# Altium schematic symbol library Servo_Control_Lib.SchLib: 40 symbols
Pins are listed as number, name and electrical type; pins without a type are passive.

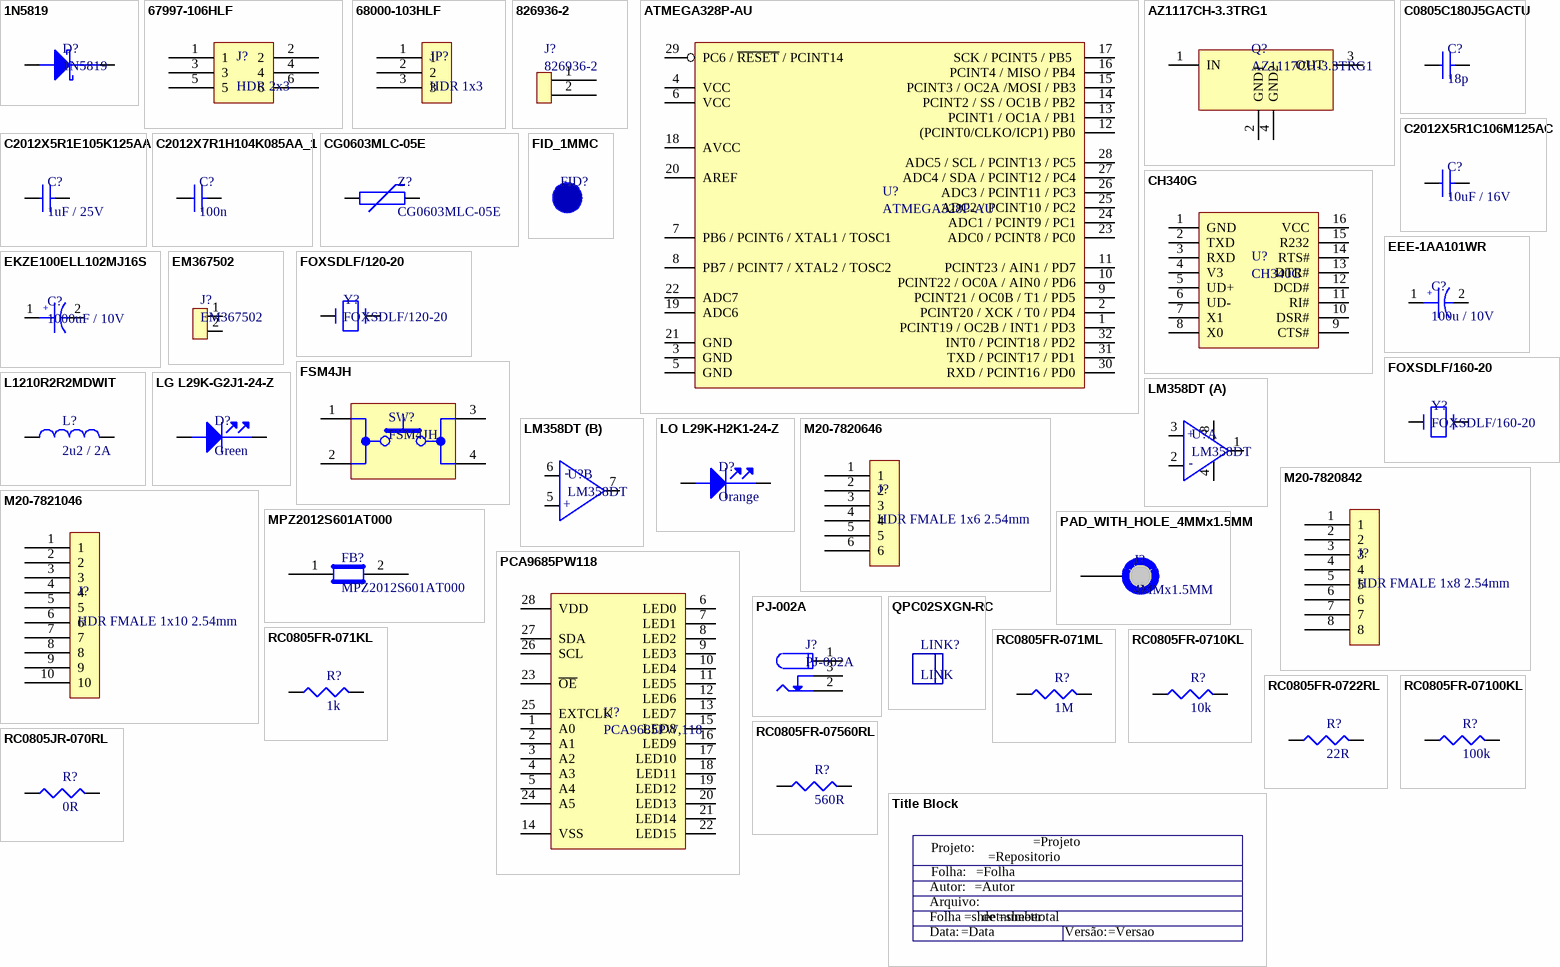
[diagram p0: symbols 1N5819 to Title Block]

## 1N5819
designator D?
Schottky Diodes & Rectifiers Schottky Barrier; Manufacturer: ON Semiconductor / Fairchild; Configuration: Single; If - Forward Current: 1 A; Ifsm - Forward Surge Current: 25 A; Ir - Reverse Current: 500 uA; Vf - Forward Voltage: 0.6 V; Vrrm - Repetitive Reverse Voltage: 40 V; Supplier 1: Mouser; Manufacturer Part Number: 1N5819; RoHS: RoHS Compliant; Category: Schottky Diodes & Rectifiers; Stock 1: 19180; Pricing 1: 1=0.380, 10=0.266, 100=0.122, 1000=0.094, 5000=0.080, 10000=0.073, 25000=0.068, 50000=0.061, 100000=0.059 (USD); Height: 2.72 mm (Max); Length: 5.21 mm (Max); Operating Temperature Range: - 65 C to + 125 C; Package / Case: DO-41; Packaging: Cut Tape; Product: Schottky Rectifiers; Series: 1N5819; Technology: Si; Type: Schottky Diode; Width: 2.72 mm (Max); Brand: ON Semiconductor / Fairchild; Mounting Style: Through Hole; Maximum Operating Temperature: + 125 C; Minimum Operating Temperature: - 65 C; Standard Pack Qty: 5000; RoHS - Mouser: Y; Minimum Order Quantity: 1; Reeling: True; ComponentLink1URL: http://www.mouser.com/ds/2/308/1N5819-1118406.pdf; ComponentLink1Description: http://www.mouser.com/ds/2/308/1N5819-1118406.pdf; Supplier Part Number 1: 512-1N5819
footprint 1N5819
pins: 1 Cathode, 2 Anode

## 67997-106HLF
designator J?, comment HDR 2x3
CONN HEADER 6POS .100 STR 30AU; Manufacturer: FCI; Manufacturer Part Number: 67997-106HLF; Connector Type: Header, Unshrouded; Number of Positions: 6; Number of Positions Loaded: All; Pitch: 0.100" (2.54mm); Supplier 1: Digi-Key; RoHS: RoHS Compliant; Category: Connectors, Interconnects; Stock 1: 1415; Pricing 1: 1=1.64, 10=1.489, 25=1.3976, 50=1.3368, 100=1.276, 250=1.15444, 500=1.0633, 1000=0.9114, 2500=0.85064 (USD); Packaging: Bulk; Contact Type: Male Pin; Number of Rows: 2; Row Spacing: 0.100" (2.54mm); Contact Mating Length: 0.230" (5.84mm); Mounting Type: Through Hole; Termination: Solder; Fastening Type: -; Features: -; Contact Finish: Gold or Gold, GXT™; Contact Finish Thickness: 30µin (0.76µm); Color: Black; ComponentLink1URL: http://portal.fciconnect.com/Comergent//fci/drawing/67996.pdf; ComponentLink1Description: http://portal.fciconnect.com/Comergent//fci/drawing/67996.pdf; Supplier Part Number 1: 609-3393-ND
footprint HDR_2x3_2.54MM
pins: 1, 2, 3, 4, 5, 6

## 68000-103HLF
designator JP?, comment HDR 1x3
BERGSTIK II .100" SR STRAIGHT; Manufacturer: FCI; Manufacturer Part Number: 68000-103HLF; Connector Type: Header, Unshrouded; Number of Positions: 3; Number of Positions Loaded: All; Pitch: 0.100" (2.54mm); Supplier 1: Digi-Key; RoHS: RoHS Compliant; Category: Connectors, Interconnects; Stock 1: 54154; Pricing 1: 1=0.26, 10=0.249, 25=0.2136, 50=0.1816, 100=0.1744, 250=0.15664, 500=0.14952, 1000=0.1246, 2500=0.11392 (USD); Packaging: Bulk; Contact Type: Male Pin; Number of Rows: 1; Row Spacing: -; Contact Mating Length: 0.230" (5.84mm); Mounting Type: Through Hole; Termination: Solder; Fastening Type: -; Features: -; Contact Finish: Gold or Gold, GXT™; Contact Finish Thickness: 30µin (0.76µm); Color: Black; ComponentLink1URL: http://portal.fciconnect.com/Comergent//fci/drawing/68000.pdf; ComponentLink1Description: http://portal.fciconnect.com/Comergent//fci/drawing/68000.pdf; Supplier Part Number 1: 609-3461-ND
footprint Hdr_1x3_2.54mm
pins: 1, 2, 3

## 826936-2
designator J?
Headers & Wire Housings 2P SINGLE ROW; Manufacturer: TE Connectivity; Mounting Angle: Vertical; Number of Positions: 2 Position; Pitch: 2.54 mm; Mating Post Length: 5.8 mm; Supplier 1: Mouser; Manufacturer Part Number: 826936-2; RoHS: RoHS Compliant; Category: Headers & Wire Housings; Stock 1: 5764; Pricing 1: 1=0.100, 25=0.090, 50=0.086, 100=0.082, 500=0.075, 1000=0.072 (USD); Contact Plating: Tin; Housing Material: Thermoplastic; Number of Rows: 1 Row; Packaging: Bulk; Product: Headers; Series: AMPMODU MOD II; Termination Style: Through Hole; Type: Breakaway; Brand: TE Connectivity; Contact Material: Brass; Flammability Rating: UL 94 V-0; Mounting Style: -; Row Spacing: 2.54 mm; Contact Gender: Pin (Male); Standard Pack Qty: 3000; Termination Post Length: 3.2 mm; Tradename: AMPMODU; RoHS - Mouser: Y; Minimum Order Quantity: 1; Reeling: False; ComponentLink1URL: http://www.mouser.com/ds/2/418/NG_CD_826629_AC-673032.pdf; ComponentLink1Description: http://www.mouser.com/ds/2/418/NG_CD_826629_AC-673032.pdf; Supplier Part Number 1: 571-826936-2
footprint HDR_1X2_2.54MM
pins: 1, 2

## ATMEGA328P-AU
designator U?
8-bit Microcontrollers - MCU 32KB In-system Flash 20MHz 1.8V-5.5V; Manufacturer: Microchip Technology / Atmel; Data RAM Size: 2 kB; Data RAM Type: SRAM; Data ROM Size: 1 kB; Data ROM Type: EEPROM; Interface Type: I2C, SPI, USART; Number of I/Os: 23 I/O; ADC Resolution: 10 bit; Core: AVR; Data Bus Width: 8 bit; Number of ADC Channels: 8; Number of Timers/Counters: 3 Timer; Operating Supply Voltage: 1.8 V to 5.5 V; Processor Series: megaAVR; Supply Voltage - Max: 5.5 V; Supply Voltage - Min: 1.8 V; Supplier 1: Mouser; Manufacturer Part Number: ATMEGA328P-AU; RoHS: RoHS Compliant; Category: 8-bit Microcontrollers - MCU; Stock 1: 28109; Pricing 1: 1=2.07, 25=1.89, 100=1.72, 1000=1.64 (USD); Height: 1 mm; Length: 7 mm; Package / Case: TQFP-32; Packaging: Tray; Product: MCU; Program Memory Type: Flash; Series: ATMEGA328; Width: 7 mm; Brand: Microchip Technology / Atmel; Mounting Style: SMD/SMT; Program Memory Size: 32 kB; Maximum Clock Frequency: 20 MHz; Maximum Operating Temperature: + 85 C; Minimum Operating Temperature: - 40 C; Moisture Sensitive: Yes; Standard Pack Qty: 250; Tradename: ATMEGA; RoHS - Mouser: Y; Minimum Order Quantity: 1; Reeling: False; ComponentLink1URL: http://www.mouser.com/ds/2/268/atmel-8271-8-bit-avr-microcontroller-atmega48a-48p-1065900.pdf; ComponentLink1Description: http://www.mouser.com/ds/2/268/atmel-8271-8-bit-avr-microcontroller-atmega48a-48p-1065900.pdf; Supplier Part Number 1: 556-ATMEGA328P-AU
footprint TQFP32
pins: 1 PCINT19 / OC2B / INT1 / PD3, 2 PCINT20 / XCK / T0 / PD4, 3 GND, 4 VCC, 5 GND, 6 VCC, 7 PB6 / PCINT6 / XTAL1 / TOSC1, 8 PB7 / PCINT7 / XTAL2 / TOSC2, 9 PCINT21 / OC0B / T1 / PD5, 10 PCINT22 / OC0A / AIN0 / PD6, 11 PCINT23 / AIN1 / PD7, 12 (PCINT0/CLKO/ICP1) PB0, 13 PCINT1 / OC1A / PB1, 14 PCINT2 / SS / OC1B / PB2, 15 PCINT3 / OC2A /MOSI / PB3, 16 PCINT4 / MISO / PB4, 17 SCK / PCINT5 / PB5 , 18 AVCC, 19 ADC6, 20 AREF, 21 GND, 22 ADC7, 23 ADC0 / PCINT8 / PC0, 24  ADC1 / PCINT9 / PC1, 25  ADC2 / PCINT10 / PC2, 26  ADC3 / PCINT11 / PC3, 27 ADC4 / SDA / PCINT12 / PC4, 28 ADC5 / SCL / PCINT13 / PC5, 29 PC6 / ~{RESET} / PCINT14, 30  RXD / PCINT16 / PD0, 31 TXD / PCINT17 / PD1, 32 INT0 / PCINT18 / PD2

## AZ1117CH-3.3TRG1
designator Q?
LDO Voltage Regulators LDO BJT HiCurr 1.15V at 1A; Manufacturer: Diodes Incorporated; Input Voltage MAX: 15 V; Number of Outputs: 1 Output; Output Current: 800 mA; Output Type: Fixed; Output Voltage: 3.3 V; Quiescent Current: 4 mA; Type: Linear Regulator; Dropout Voltage - Max: 1.3 V; PSRR / Ripple Rejection - Typ: 70 dB; Dropout Voltage: 1.2 V; Line Regulation: 500 uV; Load Regulation: 2 mV; Supplier 1: Mouser; Manufacturer Part Number: AZ1117CH-3.3TRG1; RoHS: RoHS Compliant; Category: LDO Voltage Regulators; Stock 1: 11685; Pricing 1: 1=0.380, 10=0.262, 100=0.120, 1000=0.093, 4000=0.079, 8000=0.072, 24000=0.067, 48000=0.060, 100000=0.058 (USD); Package / Case: SOT-223-3; Packaging: Cut Tape; Product: LDO Voltage Regulators; Series: AZ1117; Brand: Diodes Incorporated; Mounting Style: SMD/SMT; Output Voltage Range: -; Maximum Operating Temperature: + 125 C; Minimum Operating Temperature: - 20 C; Moisture Sensitive: Yes; Standard Pack Qty: 4000; RoHS - Mouser: Y; Minimum Order Quantity: 1; Reeling: True; ComponentLink1URL: http://www.mouser.com/ds/2/115/AZ1117C-271627.pdf; ComponentLink1Description: http://www.mouser.com/ds/2/115/AZ1117C-271627.pdf; Supplier Part Number 1: 621-AZ1117CH-3.3TRG1
footprint SOT223
pins: 1 IN, 2 GND1, 3 OUT, 4 GND2

## C0805C180J5GACTU
designator C?, comment 18p
CAP CER 18PF 50V NP0 0805; Manufacturer: Kemet; Manufacturer Part Number: C0805C180J5GACTU; Tolerance: ±5%; Temperature Coefficient: C0G, NP0; Supplier 1: Digi-Key; RoHS: RoHS Compliant; Category: Capacitors; Stock 1: 159749; Pricing 1: 1=0.11, 10=0.082, 50=0.0442, 100=0.0374, 250=0.0306, 500=0.02618, 1000=0.0204 (USD); Packaging: Cut Tape (CT); Capacitance: 18pF; Voltage - Rated: 50V; Mounting Type: Surface Mount, MLCC; Operating Temperature: -55°C ~ 125°C; Applications: General Purpose; Ratings: -; Package / Case: 0805 (2012 Metric); Size / Dimension: 0.079" L x 0.049" W (2.00mm x 1.25mm); Height - Seated (Max): -; Thickness (Max): 0.035" (0.88mm); Lead Spacing: -; Features: -; Lead Style: -; ComponentLink1URL: http://www.kemet.com/docfinder?Partnumber=C0805C180J5GACTU; ComponentLink1Description: http://www.kemet.com/docfinder?Partnumber=C0805C180J5GACTU; Supplier Part Number 1: 399-1112-1-ND
footprint C0805
pins: 1, 2

## C2012X5R1C106M125AC
designator C?, comment 10uF / 16V
CAP CER 10UF 16V X5R 0805; Manufacturer: TDK Corporation; Manufacturer Part Number: C2012X5R1C106M125AC; Capacitance: 10µF; Tolerance: ±20%; Supplier 1: Digi-Key; RoHS: RoHS Compliant; Category: Capacitors; Stock 1: 72024; Pricing 1: 1=0.33, 10=0.272, 100=0.136, 250=0.102, 500=0.0901, 1000=0.0799 (USD); Packaging: Cut Tape (CT); Voltage - Rated: 16V; Temperature Coefficient: X5R; Mounting Type: Surface Mount, MLCC; Operating Temperature: -55°C ~ 85°C; Applications: General Purpose; Ratings: -; Package / Case: 0805 (2012 Metric); Size / Dimension: 0.079" L x 0.049" W (2.00mm x 1.25mm); Height - Seated (Max): -; Thickness (Max): 0.057" (1.45mm); Lead Spacing: -; Features: -; Lead Style: -; ComponentLink1URL: https://product.tdk.com/info/en/catalog/datasheets/mlcc_commercial_general_en.pdf; ComponentLink1Description: https://product.tdk.com/info/en/catalog/datasheets/mlcc_commercial_general_en.pdf; Supplier Part Number 1: 445-4115-1-ND
footprint C0805
pins: 1, 2

## C2012X5R1E105K125AA
designator C?, comment 1uF / 25V
CAP CER 1UF 25V X5R 0805; Manufacturer: TDK Corporation; Manufacturer Part Number: C2012X5R1E105K125AA; Capacitance: 1µF; Tolerance: ±10%; Supplier 1: Digi-Key; RoHS: RoHS Compliant; Category: Capacitors; Stock 1: 229370; Pricing 1: 1=0.16, 10=0.11, 100=0.0523, 250=0.044, 500=0.03686, 1000=0.03025 (USD); Packaging: Cut Tape (CT); Voltage - Rated: 25V; Temperature Coefficient: X5R; Mounting Type: Surface Mount, MLCC; Operating Temperature: -55°C ~ 85°C; Applications: General Purpose; Ratings: -; Package / Case: 0805 (2012 Metric); Size / Dimension: 0.079" L x 0.049" W (2.00mm x 1.25mm); Height - Seated (Max): -; Thickness (Max): 0.057" (1.45mm); Lead Spacing: -; Features: -; Lead Style: -; ComponentLink1URL: https://product.tdk.com/info/en/catalog/datasheets/mlcc_commercial_general_en.pdf; ComponentLink1Description: https://product.tdk.com/info/en/catalog/datasheets/mlcc_commercial_general_en.pdf; Supplier Part Number 1: 445-1419-1-ND
footprint C0805
pins: 1, 2

## C2012X7R1H104K085AA_1
designator C?, comment 100n
CAP CER 0.1UF 50V X7R 0805; Manufacturer: TDK Corporation; Manufacturer Part Number: C2012X7R1H104K085AA; Capacitance: 0.1µF; Tolerance: ±10%; Supplier 1: Digi-Key; RoHS: RoHS Compliant; Category: Capacitors; Stock 1: 335513; Pricing 1: 1=0.1, 10=0.066, 100=0.0303, 250=0.02476, 500=0.02118, 1000=0.0165 (USD); Packaging: Cut Tape (CT); Voltage - Rated: 50V; Temperature Coefficient: X7R; Mounting Type: Surface Mount, MLCC; Operating Temperature: -55°C ~ 125°C; Applications: General Purpose; Ratings: -; Package / Case: 0805 (2012 Metric); Size / Dimension: 0.079" L x 0.049" W (2.00mm x 1.25mm); Height - Seated (Max): -; Thickness (Max): 0.037" (0.95mm); Lead Spacing: -; Features: -; Lead Style: -; ComponentLink1URL: https://product.tdk.com/info/en/catalog/datasheets/mlcc_commercial_general_en.pdf; ComponentLink1Description: https://product.tdk.com/info/en/catalog/datasheets/mlcc_commercial_general_en.pdf; Supplier Part Number 1: 445-7534-1-ND
footprint C0805
pins: 1, 2

## CG0603MLC-05E
designator Z?
VARISTOR 0603; Manufacturer: Bourns Inc.; Number of Circuits: 1; Maximum DC Volts: 5VDC; Supplier 1: Digi-Key; Manufacturer Part Number: CG0603MLC-05E; RoHS: RoHS Compliant; Category: Circuit Protection; Stock 1: 102370; Pricing 1: 1=0.19, 10=0.177, 25=0.164, 50=0.158, 100=0.1472, 250=0.13104, 500=0.1092, 1000=0.10348, 2500=0.09256 (USD); Packaging: Cut Tape (CT); Varistor Voltage (Min): -; Varistor Voltage (Typ): -; Varistor Voltage (Max): -; Current - Surge: -; Maximum AC Volts: -; Energy: -; Package / Case: 0603 (1608 Metric); Mounting Type: Surface Mount, MLCV; ComponentLink1URL: http://www.bourns.com/docs/Product-Datasheets/MLC.pdf; ComponentLink1Description: http://www.bourns.com/docs/Product-Datasheets/MLC.pdf; Supplier Part Number 1: CG0603MLC-05ECT-ND
footprint R0603
pins: 1, 2

## CH340G
designator U?
USB bus adapters; Manufacturer: Chinese; Maximum Clock Frequency: 12 MHz; Operating Supply Voltage: 3.3 V to 5.5 V; Supply Voltage - Max: 5.5 V; Supply Voltage - Min: 3.3 V; Manufacturer Part Number: CH340G; Category: USB bus adapters; Pricing 1: 1=2.07, 25=1.89, 100=1.72, 1000=1.64 (USD); Package / Case: SO-16; Product: MCU; Series: CH340; Mounting Style: SMD/SMT; Maximum Operating Temperature: + 85 C; Minimum Operating Temperature: - 40 C; Minimum Order Quantity: 1
footprint SO-16
pins: 1 GND, 2 TXD, 3 RXD, 4 V3, 5 UD+, 6 UD-, 7 X1, 8 X0, 9 CTS#, 10 DSR#, 11 RI#, 12 DCD#, 13 DTR#, 14 RTS#, 15 R232, 16 VCC

## EEE-1AA101WR
designator C?, comment 100u / 10V
CAP ALUM 100UF 20% 10V SMD; Manufacturer: Panasonic Electronic Components; Manufacturer Part Number: EEE-1AA101WR; Capacitance: 100µF; Lifetime @ Temp.: 1000 Hrs @ 85°C; Ripple Current: 50mA; Surface Mount Land Size: 0.209" L x 0.209" W (5.30mm x 5.30mm); Supplier 1: Digi-Key; RoHS: RoHS Compliant; Category: Capacitors; Stock 1: 104915; Pricing 1: 1=0.44, 10=0.345, 25=0.2904, 50=0.249, 100=0.2076, 250=0.15568, 500=0.13284 (USD); Packaging: Cut Tape (CT); Tolerance: ±20%; Voltage Rating: 10V; ESR (Equivalent Series Resistance): -; Operating Temperature: -40°C ~ 85°C; Type: -; Applications: Automotive; Impedance: -; Lead Spacing: -; Size / Dimension: 0.197" Dia (5.00mm); Height - Seated (Max): 0.213" (5.40mm); Mounting Type: Surface Mount; Package / Case: Radial, Can - SMD; ComponentLink1URL: http://media.digikey.com/pdf/Data%20Sheets/Panasonic%20Electronic%20Components/S_Series_Type_V.pdf; ComponentLink1Description: http://media.digikey.com/pdf/Data%20Sheets/Panasonic%20Electronic%20Components/S_Series_Type_V.pdf; Supplier Part Number 1: PCE3867CT-ND
footprint C_ALU_C_SIZE
pins: 1, 2
text: +

## EKZE100ELL102MJ16S
designator C?, comment 1000uF / 10V
Aluminum Electrolytic Capacitors - Leaded 10volts 1000uF 10X16; Manufacturer: United Chemi-Con; Manufacturer Part Number: EKZE100ELL102MJ16S; Tolerance: 20 %; Voltage Rating DC: 10 VDC; Supplier 1: Mouser; RoHS: RoHS Compliant; Category: Aluminum Electrolytic Capacitors - Leaded; Stock 1: 9583; Pricing 1: 1=0.720, 10=0.508, 100=0.335, 500=0.248, 1000=0.211, 2000=0.199, 4000=0.186, 10000=0.174, 24000=0.168 (USD); Capacitance: 1000 uF; Diameter: 10 mm; Length: 16 mm; Packaging: Bulk; Product: Low Impedance Electrolytic Capacitors; Series: KZE; Termination Style: Radial; Brand: United Chemi-Con; Lead Spacing: 5 mm; Maximum Operating Temperature: + 105 C; Minimum Operating Temperature: - 40 C; Standard Pack Qty: 2000; RoHS - Mouser: Y; Minimum Order Quantity: 1; Reeling: False; ComponentLink1URL: http://www.mouser.com/ds/2/420/-794851.pdf; ComponentLink1Description: http://www.mouser.com/ds/2/420/-794851.pdf; Supplier Part Number 1: 661-EKZE100ELL102MJ1
footprint CAP_EL_10MMX16
pins: 1, 2
text: +

## EM367502
designator J?
Fixed Terminal Blocks EURO (MA311-50002) TERM; Manufacturer: Bussmann / Eaton; Connection Method: Spring Cage; Current Rating: 10 A; Mounting Angle: Vertical; Number of Positions: 2 Position; Voltage Rating: 300 V; Pitch: 5 mm; Wire Gauge Range: 26 AWG to 14 AWG; Supplier 1: Mouser; Manufacturer Part Number: EM367502; RoHS: RoHS Compliant; Category: Fixed Terminal Blocks; Stock 1: 1498; Pricing 1: 1=0.260, 10=0.250, 100=0.240, 250=0.226, 500=0.214, 1000=0.203, 2000=0.190, 5000=0.179, 10000=0.164 (USD); Color: Green; Contact Plating: Tin; Housing Material: Thermoplastic; Packaging: Bulk; Product: Fixed Terminal Blocks; Series: EM3675; Termination Style: Through Hole; Brand: Bussmann / Eaton; Contact Material: Brass; Flammability Rating: UL 94 V-0; Standard Pack Qty: 100; Tradename: EuroMag; RoHS - Mouser: Y; Minimum Order Quantity: 1; Reeling: False; ComponentLink1URL: http://www.mouser.com/ds/2/87/Bus_Elx_DS_EM3675_Spring_Clamp-1066360.pdf; ComponentLink1Description: http://www.mouser.com/ds/2/87/Bus_Elx_DS_EM3675_Spring_Clamp-1066360.pdf; Supplier Part Number 1: 504-EM367502
footprint 2_Pins_Fixed_Terminal
pins: 1, 2

## FID_1MMC
designator FID?  (value not drawn)  (no BOM)
Fiducial 40mil Diameter, 120mil Mask
footprint FID_40X120D

## FOXSDLF/120-20
designator Y?
Crystals 12MHz 20pF; Manufacturer: Fox; Frequency Stability: 50 PPM; Supplier 1: Mouser; Manufacturer Part Number: FOXSDLF/120-20; RoHS: RoHS Compliant; Category: Crystals; Stock 1: 4211; Pricing 1: 1=0.270, 10=0.225, 50=0.203, 100=0.180, 500=0.171, 1000=0.144, 2000=0.135, 5000=0.130, 10000=0.126 (USD); Frequency: 12 MHz; Height: 4.5 mm; Length: 13.9 mm; Load Capacitance: 20 pF; Package / Case: HC-49/US; Packaging: Cut Tape; Series: FOXSDLF; Termination Style: SMD/SMT; Tolerance: 50 PPM; Width: 5 mm; Brand: Fox; Mounting Style: SMD/SMT; Maximum Operating Temperature: + 70 C; Minimum Operating Temperature: - 10 C; Standard Pack Qty: 1000; RoHS - Mouser: Y; Minimum Order Quantity: 1; Reeling: True; ComponentLink1URL: http://www.mouser.com/ds/2/160/C4SD-1131563.pdf; ComponentLink1Description: http://www.mouser.com/ds/2/160/C4SD-1131563.pdf; Supplier Part Number 1: 559-FOXSD120-20-LF
footprint HC49SD
pins: 1, 2

## FOXSDLF/160-20
designator Y?
Crystals 16MHz 20pF; Manufacturer: Fox; Frequency Stability: 50 PPM; Supplier 1: Mouser; Manufacturer Part Number: FOXSDLF/160-20; RoHS: RoHS Compliant; Category: Crystals; Stock 1: 1632; Pricing 1: 1=0.270, 10=0.225, 50=0.203, 100=0.180, 500=0.171, 1000=0.144, 2000=0.135, 5000=0.130, 10000=0.126 (USD); Frequency: 16 MHz; Height: 4.5 mm; Length: 13.9 mm; Load Capacitance: 20 pF; Package / Case: HC-49/US; Packaging: Cut Tape; Series: FOXSDLF; Termination Style: SMD/SMT; Tolerance: 50 PPM; Width: 5 mm; Brand: Fox; Mounting Style: SMD/SMT; Maximum Operating Temperature: + 70 C; Minimum Operating Temperature: - 10 C; Standard Pack Qty: 1000; RoHS - Mouser: Y; Minimum Order Quantity: 1; Reeling: True; ComponentLink1URL: http://www.mouser.com/ds/2/160/C4SD-1131563.pdf; ComponentLink1Description: http://www.mouser.com/ds/2/160/C4SD-1131563.pdf; Supplier Part Number 1: 559-FOXSD160-20-LF
footprint HC49SD
pins: 1, 2

## FSM4JH
designator SW?
Tactile Switches SPST OFF-(ON) Round pushbutton; Manufacturer: TE Connectivity / Alcoswitch; Current Rating: 50 mA; Operating Force: 1.6 N; Voltage Rating DC: 12 VDC; Ground Terminal: No; Mounting Direction: Vertical; Supplier 1: Mouser; Manufacturer Part Number: FSM4JH; RoHS: RoHS Compliant; Category: Tactile Switches; Stock 1: 42422; Pricing 1: 1=0.100, 25=0.075, 50=0.069, 100=0.066, 250=0.063, 500=0.058, 1000=0.054, 2000=0.051, 5000=0.050 (USD); Actuator: Round; Contact Form: SPST; Packaging: Bulk; Switch Function: OFF - (ON); Termination Style: Solder Pin; Brand: TE Connectivity / Alcoswitch; Mounting Style: Through Hole; Standard Pack Qty: 750; RoHS - Mouser: Y; Minimum Order Quantity: 1; Reeling: False; ComponentLink1URL: http://www.mouser.com/ds/2/418/NG_CD_1825910_C9-679020.pdf; ComponentLink1Description: http://www.mouser.com/ds/2/418/NG_CD_1825910_C9-679020.pdf; Supplier Part Number 1: 506-FSM4JH
footprint FSM4JH
pins: 1, 2, 3, 4

## L1210R2R2MDWIT
designator L?, comment 2u2 / 2A
FIXED IND 2.2UH 2A 80 MOHM SMD; Manufacturer: Kemet; Manufacturer Part Number: L1210R2R2MDWIT; Type: Wirewound; Material - Core: Ferrite; Inductance: 2.2µH; Tolerance: ±20%; Shielding: Unshielded; DC Resistance (DCR): 80 mOhm; Frequency - Self Resonant: 190MHz; Frequency - Test: 100kHz; Supplier 1: Digi-Key; RoHS: RoHS Compliant; Category: Inductors, Coils, Chokes; Stock 1: 1408; Pricing 1: 1=0.54, 10=0.476, 25=0.4464, 50=0.3868, 100=0.357, 250=0.33916, 500=0.3094 (USD); Packaging: Cut Tape (CT); Current Rating: 2A; Current - Saturation: -; Q @ Freq: -; Operating Temperature: -40°C ~ 105°C; Mounting Type: Surface Mount; Package / Case: 1210 (3225 Metric); Size / Dimension: 0.126" L x 0.098" W (3.20mm x 2.50mm); Height - Seated (Max): 0.106" (2.70mm); Supplier Device Package: 1210; ComponentLink1URL: http://www.kemet.com/Lists/ProductCatalog/Attachments/57/F3115.pdf; ComponentLink1Description: http://www.kemet.com/Lists/ProductCatalog/Attachments/57/F3115.pdf; Supplier Part Number 1: 399-9598-1-ND
footprint C1210_IND
pins: 1, 2

## LG L29K-G2J1-24-Z
designator D?, comment Green
LED GREEN DIFFUSED 0603 SMD; Manufacturer: OSRAM Opto Semiconductors Inc.; Manufacturer Part Number: LG L29K-G2J1-24-Z; Lens Color: White; Millicandela Rating: 3.92mcd; Lens Style/Size: Rectangle with Flat Top, 1.30mm x 0.80mm; Voltage - Forward (Vf) (Typ): 1.7V; Current - Test: 2mA; Viewing Angle: 160°; Wavelength - Dominant: 570nm; Wavelength - Peak: 572nm; Supplier 1: Digi-Key; RoHS: RoHS Compliant; Category: Optoelectronics; Stock 1: 208577; Pricing 1: 1=0.36, 10=0.279, 25=0.2268, 100=0.1805, 250=0.15472, 500=0.1341, 1000=0.10316, 2500=0.09284 (USD); Packaging: Cut Tape (CT); Color: Green; Lens Transparency: Diffused; Mounting Type: Surface Mount; Features: -; Package / Case: 0603 (1608 Metric); Supplier Device Package: *; Size / Dimension: 1.70mm L x 0.80mm W; Height (Max): 0.65mm; ComponentLink1URL: http://www.osram-os.com/Graphics/XPic2/00077107_0.pdf; ComponentLink1Description: http://www.osram-os.com/Graphics/XPic2/00077107_0.pdf; Supplier Part Number 1: 475-2709-1-ND
footprint LED_0603
pins: 1 Cathode, 2 Anode

## LM358DT
designator U?
Operational Amplifiers - Op Amps Dual Low Power; Manufacturer: STMicroelectronics; Amplifier Type: Low Power Amplifier; Supply Type: Single, Dual; Number of Channels: 2 Channel; Shutdown: No Shutdown; CMRR - Common Mode Rejection Ratio: 70 dB; Dual Supply Voltage: +/- 3 V, +/- 5 V, +/- 9 V, +/- 12 V; en - Input Voltage Noise Density: 55 nV/sqrt Hz; GBP - Gain Bandwidth Product: 1.1 MHz; Ib - Input Bias Current: 150 nA; Maximum Dual Supply Voltage: +/- 15 V; Minimum Dual Supply Voltage: +/- 1.5 V; Operating Supply Current: 1.2 mA; Operating Supply Voltage: 3 V to 30 V, +/- 1.5 V to +/- 15 V; Output Current per Channel: 40 mA; Pd - Power Dissipation: 500 mW (1/2 W); PSRR - Power Supply Rejection Ratio: 65 dB; SR - Slew Rate: 0.6 V/us; Supply Voltage - Max: 30 V; Supply Voltage - Min: 3 V; Voltage Gain dB: 100 dB; Vos - Input Offset Voltage: 7 mV; Supplier 1: Mouser; Manufacturer Part Number: LM358DT; RoHS: RoHS Compliant; Category: Operational Amplifiers - Op Amps; Stock 1: 34702; Pricing 1: 1=0.420, 10=0.295, 100=0.136, 1000=0.104, 2500=0.089, 10000=0.081, 25000=0.076, 50000=0.068, 100000=0.065 (USD); Height: 1.65 mm (Max); Length: 5 mm (Max); Package / Case: SO-8; Packaging: Cut Tape; Product: Operational Amplifiers; Series: LM358; Technology: Bipolar; Width: 4 mm (Max); Brand: STMicroelectronics; Mounting Style: SMD/SMT; Maximum Operating Temperature: + 70 C; Minimum Operating Temperature: 0 C; Standard Pack Qty: 2500; RoHS - Mouser: Y; Minimum Order Quantity: 1; Reeling: True; ComponentLink1URL: http://www.mouser.com/ds/2/389/lm158-954927.pdf; ComponentLink1Description: http://www.mouser.com/ds/2/389/lm158-954927.pdf; Supplier Part Number 1: 511-LM358DT
footprint SO-8
part A pins: 1 OUT1, 2 IN1-, 3 IN1+, 4 GND, 8 VCC
part B pins: 5 IN2+, 6 IN2-, 7 OUT2
part A text: +; -
part B text: -; +

## LO L29K-H2K1-24-Z
designator D?, comment Orange
LED ORANGE DIFFUSED 0603 SMD; Manufacturer: OSRAM Opto Semiconductors Inc.; Manufacturer Part Number: LO L29K-H2K1-24-Z; Lens Color: White; Millicandela Rating: 6.3mcd; Lens Style/Size: Rectangle with Flat Top, 1.30mm x 0.80mm; Voltage - Forward (Vf) (Typ): 1.8V; Current - Test: 2mA; Viewing Angle: 160°; Wavelength - Dominant: 606nm; Wavelength - Peak: 610nm; Supplier 1: Digi-Key; RoHS: RoHS Compliant; Category: Optoelectronics; Stock 1: 3671; Pricing 1: 1=0.42, 10=0.299, 25=0.2456, 100=0.1964, 250=0.14728, 500=0.1339, 1000=0.10712, 2500=0.08703 (USD); Packaging: Cut Tape (CT); Color: Orange; Lens Transparency: Diffused; Mounting Type: Surface Mount; Features: -; Package / Case: 0603 (1608 Metric); Supplier Device Package: *; Size / Dimension: 1.70mm L x 0.80mm W; Height (Max): 0.65mm; ComponentLink1URL: http://www.osram-os.com/Graphics/XPic0/00077105_0.pdf; ComponentLink1Description: http://www.osram-os.com/Graphics/XPic0/00077105_0.pdf; Supplier Part Number 1: 475-2740-1-ND
footprint LED_0603
pins: 1 Cathode, 2 Anode

## M20-7820646
designator J?, comment HDR FMALE 1x6 2.54mm
06-WAY SIL VERT SOCKET L/FREE; Manufacturer: Harwin Inc.; Manufacturer Part Number: M20-7820646; Connector Type: Receptacle; Number of Positions: 6; Number of Positions Loaded: All; Pitch: 0.100" (2.54mm); Supplier 1: Digi-Key; RoHS: RoHS Compliant; Category: Connectors, Interconnects; Stock 1: 255; Pricing 1: 1=0.96, 38=0.79211, 76=0.75895, 114=0.72596, 266=0.66, 532=0.594, 1026=0.528, 2508=0.4785 (USD); Packaging: Tube; Contact Type: Female Socket; Number of Rows: 1; Row Spacing: -; Mounting Type: Through Hole; Termination: Solder; Fastening Type: -; Features: -; Contact Finish: Tin; Contact Finish Thickness: -; Color: Black; ComponentLink1URL: http://cdn.harwin.com/pdfs/M20-782.pdf; ComponentLink1Description: http://cdn.harwin.com/pdfs/M20-782.pdf; Supplier Part Number 1: 952-1809-ND
footprint Hdr_Female_1x6_2.54mm
pins: 1, 2, 3, 4, 5, 6

## M20-7820842
designator J?, comment HDR FMALE 1x8 2.54mm
08-WAY SIL VERT SOCKET L/FREE; Manufacturer: Harwin Inc.; Manufacturer Part Number: M20-7820842; Connector Type: Receptacle; Number of Positions: 8; Number of Positions Loaded: All; Pitch: 0.100" (2.54mm); Supplier 1: Digi-Key; RoHS: RoHS Compliant; Category: Connectors, Interconnects; Stock 1: 0; Pricing 1: 1=1.1, 29=0.91207, 58=0.87397, 116=0.83603, 261=0.76, 522=0.684, 1015=0.608, 2523=0.551 (USD); Packaging: Tube; Contact Type: Female Socket; Number of Rows: 1; Row Spacing: -; Mounting Type: Through Hole; Termination: Solder; Fastening Type: -; Features: -; Contact Finish: Gold; Contact Finish Thickness: Flash; Color: Black; ComponentLink1URL: http://cdn.harwin.com/pdfs/M20-782.pdf; ComponentLink1Description: http://cdn.harwin.com/pdfs/M20-782.pdf; Supplier Part Number 1: 952-1823-ND
footprint Hdr_Female_1x8_2.54mm
pins: 1, 2, 3, 4, 5, 6, 7, 8

## M20-7821046
designator J?, comment HDR FMALE 1x10 2.54mm
10-WAY SIL VERT SOCKET L/FREE; Manufacturer: Harwin Inc.; Manufacturer Part Number: M20-7821046; Connector Type: Receptacle; Number of Positions: 10; Number of Positions Loaded: All; Pitch: 0.100" (2.54mm); Supplier 1: Digi-Key; RoHS: RoHS Compliant; Category: Connectors, Interconnects; Stock 1: 297; Pricing 1: 1=1.28, 23=1.12217, 46=1.05609, 69=1.01203, 115=0.968, 253=0.88, 506=0.792, 1012=0.704, 2507=0.638 (USD); Packaging: Tube; Contact Type: Female Socket; Number of Rows: 1; Row Spacing: -; Mounting Type: Through Hole; Termination: Solder; Fastening Type: -; Features: -; Contact Finish: Tin; Contact Finish Thickness: -; Color: Black; ComponentLink1URL: http://cdn.harwin.com/pdfs/M20-782.pdf; ComponentLink1Description: http://cdn.harwin.com/pdfs/M20-782.pdf; Supplier Part Number 1: 952-1847-ND
footprint Hdr_Female_1x10_2.54mm
pins: 1, 2, 3, 4, 5, 6, 7, 8, 9, 10

## MPZ2012S601AT000
designator FB?
FERRITE CHIP BEAD 600 OHM SMD; Manufacturer: TDK Corporation; Impedance @ Frequency: 600 Ohm @ 100MHz; Current Rating: 2A; DC Resistance (DCR): 100 mOhm Max; Filter Type: Differential Mode - Single; Supplier 1: Digi-Key; Manufacturer Part Number: MPZ2012S601AT000; RoHS: RoHS Compliant; Category: Filters; Stock 1: 93838; Pricing 1: 1=0.12, 10=0.101, 100=0.0574, 250=0.04528, 500=0.03824, 1000=0.03221 (USD); Packaging: Cut Tape (CT); Package / Case: 0805 (2012 Metric); Mounting Type: Surface Mount; Height (Max): 0.041" (1.05mm); Size / Dimension: 0.079" L x 0.049" W (2.00mm x 1.25mm); ComponentLink1URL: https://product.tdk.com/info/en/catalog/datasheets/beads_commercial_power_mpz2012_en.pdf; ComponentLink1Description: https://product.tdk.com/info/en/catalog/datasheets/beads_commercial_power_mpz2012_en.pdf; Supplier Part Number 1: 445-2206-1-ND
footprint C0805
footprint C0805
pins: 1, 2

## PAD_WITH_HOLE_4MMx1.5MM
designator J?, comment 4MMx1.5MM  (no BOM)
Pad with a hole 4mm x 1.5mm
footprint MH_7.4MMD_3.2MMD
pins: 1

## PCA9685PW118
designator U?, comment PCA9685PW,118
LED Display Drivers I2C Bus LED Controller 28-Pin; Manufacturer: NXP Semiconductors; Supplier 1: Mouser; Manufacturer Part Number: PCA9685PW,118; RoHS: RoHS Compliant; Category: LED Display Drivers; Stock 1: 6865; Pricing 1: 1=2.24, 10=1.90, 100=1.52, 500=1.34, 1000=1.11, 2500=1.03, 5000=0.989, 10000=0.950 (USD); Packaging: Cut Tape; Series: PCA9685; Brand: NXP Semiconductors; Standard Pack Qty: 2500; RoHS - Mouser: Y; Minimum Order Quantity: 1; Reeling: True; ComponentLink1URL: http://www.mouser.com/ds/2/302/PCA9685-1127478.pdf; ComponentLink1Description: http://www.mouser.com/ds/2/302/PCA9685-1127478.pdf; Supplier Part Number 1: 771-PCA9685PW,118
footprint TSSOP28
pins: 1 A0, 2 A1, 3 A2, 4 A3, 5 A4, 6 LED0, 7 LED1, 8 LED2, 9 LED3, 10 LED4, 11 LED5, 12 LED6, 13 LED7, 14 VSS, 15 LED8, 16 LED9, 17 LED10, 18 LED11, 19 LED12, 20 LED13, 21 LED14, 22 LED15, 23 ~{OE}, 24 A5, 25 EXTCLK, 26 SCL, 27 SDA, 28 VDD

## PJ-002A
designator J?
DC Power Connectors Power Jacks; Manufacturer: CUI; Connector Type: Jack; Current Rating: 2.5 A; Inside Contact Diameter: 2 mm; Mounting Angle: Right Angle; Outside Contact Diameter: 6.5 mm; Voltage Rating: 24 V; Insulation Resistance: 50 MOhms; Supplier 1: Mouser; Manufacturer Part Number: PJ-002A; RoHS: RoHS Compliant; Category: DC Power Connectors; Stock 1: 19155; Pricing 1: 1=0.590, 10=0.558, 25=0.502, 50=0.446, 100=0.428, 250=0.391, 500=0.372, 1000=0.307, 2500=0.279 (USD); Contact Plating: Nickel; Housing Material: Polybutylene Terephthalate (PBT); Product: Jacks; Termination Style: Through Hole; Brand: CUI; Contact Material: Copper; Flammability Rating: UL 94 V-0; Mounting Style: Panel; Contact Gender: Pin (Male); Maximum Operating Temperature: + 85 C; Minimum Operating Temperature: - 25 C; Standard Pack Qty: 500; RoHS - Mouser: Y; Minimum Order Quantity: 1; Reeling: False; ComponentLink1URL: http://www.mouser.com/ds/2/670/pj-002a-1219098.pdf; ComponentLink1Description: http://www.mouser.com/ds/2/670/pj-002a-1219098.pdf; Supplier Part Number 1: 490-PJ-002A
footprint PJ-002A
pins: 1, 2, 3

## QPC02SXGN-RC
designator LINK?, comment LINK  (mechanical)
CONN JUMPER SHORTING .100" GOLD; Manufacturer: Sullins Connector Solutions; Manufacturer Part Number: QPC02SXGN-RC; Gender: Female Sockets; Number of Positions or Pins (Grid): 2 (1 x 2); Pitch: 0.100" (2.54mm); Supplier 1: Digi-Key; RoHS: RoHS Compliant; Category: Connectors, Interconnects; Stock 1: 91424; Pricing 1: 1=0.13, 10=0.077, 25=0.0548, 50=0.0448, 100=0.0385, 250=0.03256, 500=0.0301, 1000=0.0266, 2500=0.021 (USD); Packaging: Bulk; Type: Open Top; Height: 0.235" (5.97mm); Contact Finish: Gold; Contact Finish Thickness: Flash; Color: Black; ComponentLink1URL: http://www.sullinscorp.com/drawings/284_SXGN_11510.pdf; ComponentLink1Description: http://www.sullinscorp.com/drawings/284_SXGN_11510.pdf; Supplier Part Number 1: S9337-ND

## RC0805FR-071KL
designator R?, comment 1k
RES SMD 1K OHM 1% 1/8W 0805; Manufacturer: Yageo; Manufacturer Part Number: RC0805FR-071KL; Power (Watts): 0.125W, 1/8W; Temperature Coefficient: ±100ppm/°C; Supplier 1: Digi-Key; RoHS: RoHS Compliant; Category: Resistors; Stock 1: 2894210; Pricing 1: 1=0.1, 10=0.021, 25=0.0152, 100=0.0084, 250=0.00644, 500=0.00514, 1000=0.00379, 2500=0.00329 (USD); Packaging: Cut Tape (CT); Resistance (Ohms): 1k; Tolerance: ±1%; Composition: Thick Film; Features: Moisture Resistant; Operating Temperature: -55°C ~ 155°C; Package / Case: 0805 (2012 Metric); Supplier Device Package: 0805; Size / Dimension: 0.079" L x 0.049" W (2.00mm x 1.25mm); Height: 0.024" (0.60mm); Number of Terminations: 2; ComponentLink1URL: http://www.yageo.com/NewPortal/yageodocoutput?fileName=/pdf/R-Chip/PYu-RC_Group_51_RoHS_L_3.pdf; ComponentLink1Description: http://www.yageo.com/NewPortal/yageodocoutput?fileName=/pdf/R-Chip/PYu-RC_Group_51_RoHS_L_3.pdf; Supplier Part Number 1: 311-1.00KCRCT-ND
footprint R0805
pins: 1, 2

## RC0805FR-071ML
designator R?, comment 1M
RES SMD 1M OHM 1% 1/8W 0805; Manufacturer: Yageo; Manufacturer Part Number: RC0805FR-071ML; Power (Watts): 0.125W, 1/8W; Temperature Coefficient: ±100ppm/°C; Supplier 1: Digi-Key; RoHS: RoHS Compliant; Category: Resistors; Stock 1: 426248; Pricing 1: 1=0.1, 10=0.021, 25=0.0152, 100=0.0084, 250=0.00644, 500=0.00514, 1000=0.00379, 2500=0.00329 (USD); Packaging: Cut Tape (CT); Resistance (Ohms): 1M; Tolerance: ±1%; Composition: Thick Film; Features: Moisture Resistant; Operating Temperature: -55°C ~ 155°C; Package / Case: 0805 (2012 Metric); Supplier Device Package: 0805; Size / Dimension: 0.079" L x 0.049" W (2.00mm x 1.25mm); Height: 0.024" (0.60mm); Number of Terminations: 2; ComponentLink1URL: http://www.yageo.com/NewPortal/yageodocoutput?fileName=/pdf/R-Chip/PYu-RC_Group_51_RoHS_L_3.pdf; ComponentLink1Description: http://www.yageo.com/NewPortal/yageodocoutput?fileName=/pdf/R-Chip/PYu-RC_Group_51_RoHS_L_3.pdf; Supplier Part Number 1: 311-1.00MCRCT-ND
footprint R0805
pins: 1, 2

## RC0805FR-0710KL
designator R?, comment 10k
RES SMD 10K OHM 1% 1/8W 0805; Manufacturer: Yageo; Manufacturer Part Number: RC0805FR-0710KL; Power (Watts): 0.125W, 1/8W; Temperature Coefficient: ±100ppm/°C; Supplier 1: Digi-Key; RoHS: RoHS Compliant; Category: Resistors; Stock 1: 4526802; Pricing 1: 1=0.1, 10=0.021, 25=0.0152, 100=0.0084, 250=0.00644, 500=0.00514, 1000=0.00379, 2500=0.00329 (USD); Packaging: Cut Tape (CT); Resistance (Ohms): 10k; Tolerance: ±1%; Composition: Thick Film; Features: Moisture Resistant; Operating Temperature: -55°C ~ 155°C; Package / Case: 0805 (2012 Metric); Supplier Device Package: 0805; Size / Dimension: 0.079" L x 0.049" W (2.00mm x 1.25mm); Height: 0.024" (0.60mm); Number of Terminations: 2; ComponentLink1URL: http://www.yageo.com/NewPortal/yageodocoutput?fileName=/pdf/R-Chip/PYu-RC_Group_51_RoHS_L_3.pdf; ComponentLink1Description: http://www.yageo.com/NewPortal/yageodocoutput?fileName=/pdf/R-Chip/PYu-RC_Group_51_RoHS_L_3.pdf; Supplier Part Number 1: 311-10.0KCRCT-ND
footprint R0805
pins: 1, 2

## RC0805FR-0722RL
designator R?, comment 22R
RES SMD 22 OHM 1% 1/8W 0805; Manufacturer: Yageo; Manufacturer Part Number: RC0805FR-0722RL; Resistance (Ohms): 22; Power (Watts): 0.125W, 1/8W; Temperature Coefficient: ±100ppm/°C; Supplier 1: Digi-Key; RoHS: RoHS Compliant; Category: Resistors; Stock 1: 106658; Pricing 1: 1=0.1, 10=0.021, 25=0.0152, 100=0.0084, 250=0.00644, 500=0.00514, 1000=0.00379, 2500=0.00329 (USD); Packaging: Cut Tape (CT); Tolerance: ±1%; Composition: Thick Film; Features: Moisture Resistant; Operating Temperature: -55°C ~ 155°C; Package / Case: 0805 (2012 Metric); Supplier Device Package: 0805; Size / Dimension: 0.079" L x 0.049" W (2.00mm x 1.25mm); Height: 0.024" (0.60mm); Number of Terminations: 2; ComponentLink1URL: http://www.yageo.com/NewPortal/yageodocoutput?fileName=/pdf/R-Chip/PYu-RC_Group_51_RoHS_L_3.pdf; ComponentLink1Description: http://www.yageo.com/NewPortal/yageodocoutput?fileName=/pdf/R-Chip/PYu-RC_Group_51_RoHS_L_3.pdf; Supplier Part Number 1: 311-22.0CRCT-ND
footprint R0805
pins: 1, 2

## RC0805FR-07100KL
designator R?, comment 100k
RES SMD 100K OHM 1% 1/8W 0805; Manufacturer: Yageo; Manufacturer Part Number: RC0805FR-07100KL; Power (Watts): 0.125W, 1/8W; Temperature Coefficient: ±100ppm/°C; Supplier 1: Digi-Key; RoHS: RoHS Compliant; Category: Resistors; Stock 1: 1350083; Pricing 1: 1=0.1, 10=0.021, 25=0.0152, 100=0.0084, 250=0.00644, 500=0.00514, 1000=0.00379, 2500=0.00329 (USD); Packaging: Cut Tape (CT); Resistance (Ohms): 100k; Tolerance: ±1%; Composition: Thick Film; Features: Moisture Resistant; Operating Temperature: -55°C ~ 155°C; Package / Case: 0805 (2012 Metric); Supplier Device Package: 0805; Size / Dimension: 0.079" L x 0.049" W (2.00mm x 1.25mm); Height: 0.024" (0.60mm); Number of Terminations: 2; ComponentLink1URL: http://www.yageo.com/NewPortal/yageodocoutput?fileName=/pdf/R-Chip/PYu-RC_Group_51_RoHS_L_3.pdf; ComponentLink1Description: http://www.yageo.com/NewPortal/yageodocoutput?fileName=/pdf/R-Chip/PYu-RC_Group_51_RoHS_L_3.pdf; Supplier Part Number 1: 311-100KCRCT-ND
footprint R0805
pins: 1, 2

## RC0805FR-07560RL
designator R?, comment 560R
RES SMD 560 OHM 1% 1/8W 0805; Manufacturer: Yageo; Manufacturer Part Number: RC0805FR-07560RL; Resistance (Ohms): 560; Power (Watts): 0.125W, 1/8W; Temperature Coefficient: ±100ppm/°C; Supplier 1: Digi-Key; RoHS: RoHS Compliant; Category: Resistors; Stock 1: 245556; Pricing 1: 1=0.1, 10=0.021, 25=0.0152, 100=0.0084, 250=0.00644, 500=0.00514, 1000=0.00379, 2500=0.00329 (USD); Packaging: Cut Tape (CT); Tolerance: ±1%; Composition: Thick Film; Features: Moisture Resistant; Operating Temperature: -55°C ~ 155°C; Package / Case: 0805 (2012 Metric); Supplier Device Package: 0805; Size / Dimension: 0.079" L x 0.049" W (2.00mm x 1.25mm); Height: 0.024" (0.60mm); Number of Terminations: 2; ComponentLink1URL: http://www.yageo.com/NewPortal/yageodocoutput?fileName=/pdf/R-Chip/PYu-RC_Group_51_RoHS_L_3.pdf; ComponentLink1Description: http://www.yageo.com/NewPortal/yageodocoutput?fileName=/pdf/R-Chip/PYu-RC_Group_51_RoHS_L_3.pdf; Supplier Part Number 1: 311-560CRCT-ND
footprint R0805
pins: 1, 2

## RC0805JR-070RL
designator R?, comment 0R
RES SMD 0.0 OHM JUMPER 1/8W 0805; Manufacturer: Yageo; Manufacturer Part Number: RC0805JR-070RL; Resistance (Ohms): 0.0; Power (Watts): 0.125W, 1/8W; Supplier 1: Digi-Key; RoHS: RoHS Compliant; Category: Resistors; Stock 1: 2285545; Pricing 1: 1=0.1, 10=0.018, 25=0.0128, 100=0.0073, 250=0.00556, 500=0.00444, 1000=0.00326, 2500=0.00283 (USD); Packaging: Cut Tape (CT); Tolerance: Jumper; Composition: Thick Film; Features: Moisture Resistant; Temperature Coefficient: -; Operating Temperature: -55°C ~ 155°C; Package / Case: 0805 (2012 Metric); Supplier Device Package: 0805; Size / Dimension: 0.079" L x 0.049" W (2.00mm x 1.25mm); Height: 0.024" (0.60mm); Number of Terminations: 2; ComponentLink1URL: http://www.yageo.com/NewPortal/yageodocoutput?fileName=/pdf/R-Chip/PYu-RC_Group_51_RoHS_L_3.pdf; ComponentLink1Description: http://www.yageo.com/NewPortal/yageodocoutput?fileName=/pdf/R-Chip/PYu-RC_Group_51_RoHS_L_3.pdf; Supplier Part Number 1: 311-0.0ARCT-ND
footprint R0805
pins: 1, 2

## Title Block
designator TitleBlock?  (value not drawn)  (graphical)
text: Projeto:; Folha:; Autor:; Arquivo:; Folha; de; Data:; Versão:

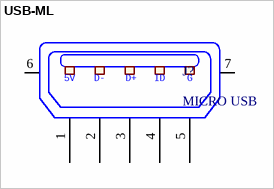
[diagram p1: symbol USB-ML]

## USB-ML
designator J?, comment MICRO USB
CONN USB MICRO B RECPT SMT R/A; Manufacturer: ??; Manufacturer Part Number: ML-01; Connector Type: USB - micro B; Number of Contacts: 5; Gender: Receptacle; Specifications: USB 2.0; RoHS: RoHS Compliant; Category: Connectors, Interconnects; Pricing 1: 1=0.46, 10=0.433, 25=0.3712, 50=0.3156, 100=0.3032, 250=0.27224, 500=0.25988 (USD); Packaging: Cut Tape (CT); Mounting Type: Surface Mount, Right Angle, Horizontal; Features: Shielded, Solder Retention; Ingress Protection: -
footprint USB_ML
pins: 1, 2, 3, 4, 5, 6, 7
text: 5V; D-; D+; ID; G